# Altium integrated library MIC29302AWU.IntLib: 1 symbol
Pins are listed as number, name and electrical type; pins without a type are passive.

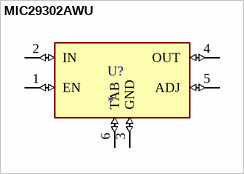
[diagram p0: symbol MIC29302AWU]

## MIC29302AWU
designator U?
Linear Voltage Regulator IC Positive Adjustable 1 Output 3A TO-263-5; MF: Microchip; MP: MIC29302AWU; SnapEDA_Link: https://www.snapeda.com/parts/MIC29302AWU/Microchip/view-part/?ref=snap; Package: TO-263-5 Microchip; Value: *; Check_prices: https://www.snapeda.com/parts/MIC29302AWU/Microchip/view-part/?ref=eda
footprint TO263-5
pins: 1 EN (io), 2 IN (io), 3 GND (io), 4 OUT (io), 5 ADJ (io), 6 TAB (io)